# Altium schematic symbol library Antenna.SchLib: 2 symbols
Pins are listed as number, name and electrical type; pins without a type are passive.

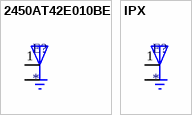
[diagram p0: symbols 2450AT42E010BE to IPX]

## 2450AT42E010BE
designator E?
2.4GHz Bluetooth, WLAN, Zigbeeâ„¢ Chip RF Antenna 2.4GHz ~ 2.48GHz -2dBi Solder Surface Mount; MF: Johanson Technology; MP: 2450AT42E010BE; Package: FBGA-780 Johanson; Value: *; SnapEDA_Link: https://www.snapeda.com/parts/2450AT42E010BE/Johanson%20Technology%20Inc./view-part/2753615/?ref=snap
footprint 2450AT42E010BE
pins: 1 FEEDING, 2 NC (power) hidden, 3 GND (power), 4 GND (power)

## IPX
designator E?
2.4GHz Bluetooth, WLAN, Zigbeeâ„¢ Chip RF Antenna 2.4GHz ~ 2.48GHz -2dBi Solder Surface Mount; MF: Johanson Technology; MP: 2450AT42E010BE; Package: FBGA-780 Johanson; Value: *; SnapEDA_Link: https://www.snapeda.com/parts/2450AT42E010BE/Johanson%20Technology%20Inc./view-part/2753615/?ref=snap
footprint IPX_SMA
footprint RFANT5220110A2T
footprint ANT_2.4G_3.2x1.6
pins: 1 FEEDING, 2 GND (power)